# EAGLE library part LTC6702 (library ElcPartsLibrary)
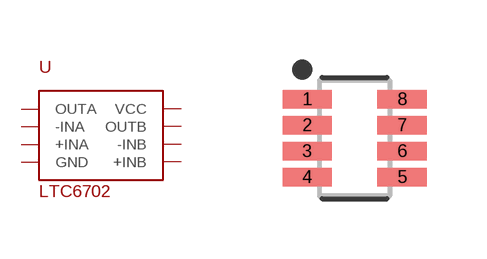
[diagram p14: symbol with the pads of SOP65P280X100-8N; footprint SOP65P280X100-8N]

Designator prefix -

## LTC6702TS8  [SOP65P280X100-8N]
1  OUTA
2  -INA
3  +INA
4  GND  pwr
5  +INB
6  -INB
7  OUTB
8  VCC  pwr

## Footprint SOP65P280X100-8N (pad centres in mm)
8-SOP, 0.65 mm pitch, 2.80 mm span, 2.90 X 1.63 X 1.00 mm body 8-pin SOP package with 0.65 mm pitch, 2.80 mm span with body size 2.90 X 1.63 X 1.00 mm
smd 1.237 x 0.459: 1 -1.187,0.975; 2 -1.187,0.325; 3 -1.187,-0.325; 4 -1.187,-0.975; 5 1.187,-0.975; 6 1.187,-0.325; 7 1.187,0.325; 8 1.187,0.975